# EAGLE library part MAX4211 (library U-Maxim-MAX4211-power-monitor)
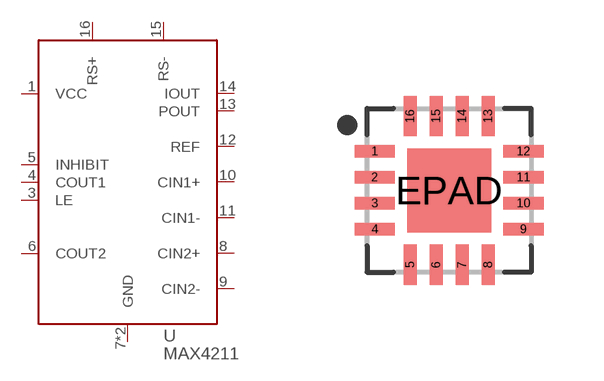
[diagram p0: symbol with the pads of QFN65P400X400X80-17T210; footprint QFN65P400X400X80-17T210]

Designator prefix U

## MAX4211 (DPN: MAX4211FETE+-ND; MPN: MAX4211FETE+)  [QFN65P400X400X80-17T210]
1  VCC  pwr
3  LE  in
4  COUT1  oc
5  INHIBIT  in
6  COUT2  oc
7  GND  pwr
8  CIN2+  in
9  CIN2-  in
10  CIN1+  in
11  CIN1-  in
12  REF  out
13  POUT  out
14  IOUT  out
15  RS-  pas
16  RS+  pas
EPAD  GND  pwr

## Footprint QFN65P400X400X80-17T210 (pad centres in mm)
16-QFN, 0.65 mm pitch, 4.00 X 4.00 X 0.80 mm body, 2.10 X 2.10 mm thermal pad 16-pin QFN package with 0.65 mm pitch with body size 4.00 X 4.00 X 0.80 mm and thermal pad size 2.10 X 2.10 mm
smd 1.01 x 0.32: 1 -1.86,0.975; 2 -1.86,0.325; 3 -1.86,-0.325; 4 -1.86,-0.975; 9 1.86,-0.975; 10 1.86,-0.325; 11 1.86,0.325; 12 1.86,0.975
smd 0.32 x 1.01: 5 -0.975,-1.86; 6 -0.325,-1.86; 7 0.325,-1.86; 8 0.975,-1.86; 13 0.975,1.86; 14 0.325,1.86; 15 -0.325,1.86; 16 -0.975,1.86
smd 2.1 x 2.1: EPAD 0,0